# Altium footprint library LED.PcbLib: 30 footprints (part 1 of 2)
Each footprint in its own frame and in the unit in brackets; x right, y up, seen from the top. Pads: shape width x height; smd on the part's side, far side on the other; paste and mask are expansions set on the pad; w line width, h text height; cw(c..) or ccw(c..) is an arc to the next point about the centre after c.
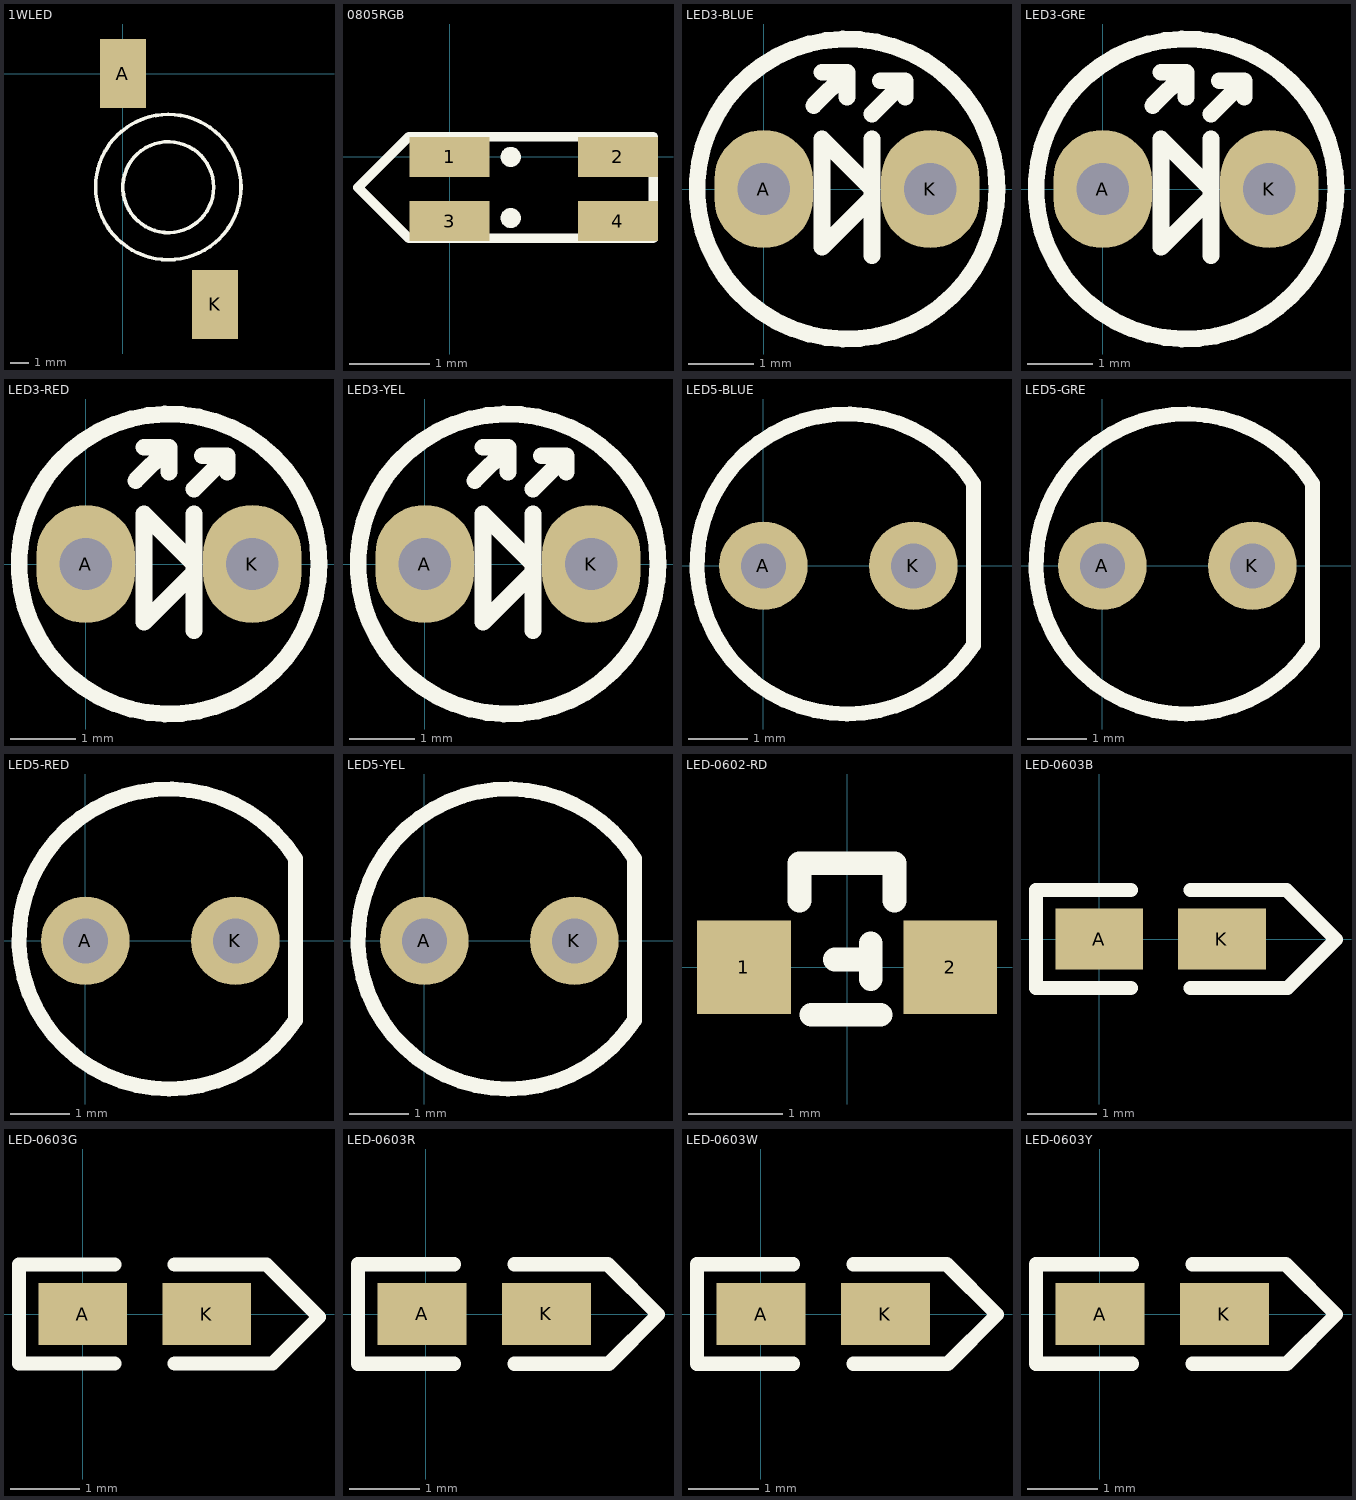
[diagram p0: the footprints below, top view; thin cyan lines are the x and y axes]

## 1WLED [mil]
pads (2):
  rect 100x150 smd: A(0,0) K(200,-500)
Top Overlay:
  circle w7.87: c98.43,-245.75 r157.48
  circle w7.87: c98.43,-246.06 r98.43
3D body: height 19.68, standoff 10, extent -39.37,-59.06 39.37,59.06
3D body: height 19.68, standoff 10, extent 157.48,-561.02 236.22,-433.07
3D body: height 218.43, standoff 21.57, extent 1.03,-343.65 196.85,-147.64
3D body: height 128.11, standoff 10, extent -57.81,-402.92 255.91,-88.58
3D body: height 35, standoff 10, extent 157.48,-433.07 236.22,-314.96
3D body: height 35, standoff 10, extent -39.37,-206.69 39.37,-59.06

## 0805RGB [mm]
height 10
pads (4):
  rect 1x0.5 smd: 1(0,0) 2(2.1,0) 3(0,-0.8) 4(2.1,-0.8)
Top Overlay:
  circle w0.254: c0.762,-0.762 r0
  circle w0.254: c0.762,0 r0
  lines w0.12: -1.143,-0.381 -0.508,-1.016 0,-1.016 2.032,-1.016 2.54,-1.016 2.54,0.254 2.032,0.254 0,0.254 -0.508,0.254 -1.143,-0.381

## LED3-BLUE [mm]
pads (2):
  oval 1.5x1.8 hole 0.8: A(0,0) K(2.54,0)
Top Overlay:
  circle w0.254: c1.27,0 r2.286
  lines w0.254: 0.762,1.27 1.27,1.778 ; 0.889,1.778 1.27,1.778 ; 1.27,1.397 1.27,1.778 ; 1.651,-1.016 1.651,0.762 ; 1.651,1.143 2.159,1.651 ; 1.778,1.651 2.159,1.651 ; 2.159,1.397 2.159,1.651 ; 0.889,-0.889 1.651,-0.127 1.651,0 0.889,0.762 0.889,-0.889
3D body "LED3_BLUE.STEP": height 5.2, standoff -2, extent -0.73,-1.998 2.79,1.998

## LED3-GRE [mm]
pads (2):
  oval 1.5x1.8 hole 0.8: A(0,0) K(2.54,0)
Top Overlay:
  circle w0.254: c1.27,0 r2.286
  lines w0.254: 0.762,1.27 1.27,1.778 ; 0.889,1.778 1.27,1.778 ; 1.27,1.397 1.27,1.778 ; 1.651,-1.016 1.651,0.762 ; 1.651,1.143 2.159,1.651 ; 1.778,1.651 2.159,1.651 ; 2.159,1.397 2.159,1.651 ; 0.889,-0.889 0.889,0.762 1.651,0 1.651,-0.127 0.889,-0.889
3D body "LED3_GRE.STEP": height 5.2, standoff -2, extent -0.74,-2.003 2.78,1.993

## LED3-RED [mm]
pads (2):
  oval 1.5x1.8 hole 0.8: A(0,0) K(2.54,0)
Top Overlay:
  circle w0.254: c1.27,0 r2.286
  lines w0.254: 0.762,1.27 1.27,1.778 ; 0.889,1.778 1.27,1.778 ; 1.27,1.397 1.27,1.778 ; 1.651,-1.016 1.651,0.762 ; 1.651,1.143 2.159,1.651 ; 1.778,1.651 2.159,1.651 ; 2.159,1.397 2.159,1.651 ; 0.889,-0.889 1.651,-0.127 1.651,0 0.889,0.762 0.889,-0.889
3D body "LED3_RED.STEP": height 5.2, standoff -2, extent -0.74,-2.003 2.78,1.993

## LED3-YEL [mm]
pads (2):
  oval 1.5x1.8 hole 0.8: A(0,0) K(2.54,0)
Top Overlay:
  circle w0.254: c1.27,0 r2.286
  lines w0.254: 0.762,1.27 1.27,1.778 ; 0.889,1.778 1.27,1.778 ; 1.27,1.397 1.27,1.778 ; 1.651,-1.016 1.651,0.762 ; 1.651,1.143 2.159,1.651 ; 1.778,1.651 2.159,1.651 ; 2.159,1.397 2.159,1.651 ; 0.889,-0.889 0.889,0.762 1.651,0 1.651,-0.127 0.889,-0.889
3D body "LED3_YEL.STEP": height 5.2, standoff -2, extent -0.373,-1.91 3.147,2.086

## LED5-BLUE [mm]
pads (2):
  round 1.5 hole 0.762: A(0,0) K(2.54,0)
Top Overlay:
  lines w0.254: 3.528,-1.378 cw(c1.415,0.031) 3.556,1.397 3.556,-1.35
3D body "LED5_BLUE.STEP": height 8.6, standoff -2, extent -1.58,-2.85 3.77,2.85

## LED5-GRE [mm]
pads (2):
  round 1.5 hole 0.762: A(0,0) K(2.54,0)
Top Overlay:
  lines w0.254: 3.528,-1.378 cw(c1.415,0.031) 3.556,1.397 3.556,-1.35
3D body "LED5_GRE.STEP": height 8.6, standoff -2, extent -1.58,-2.85 3.77,2.85

## LED5-RED [mm]
pads (2):
  round 1.5 hole 0.762: A(0,0) K(2.54,0)
Top Overlay:
  lines w0.254: 3.528,-1.378 cw(c1.415,0.031) 3.556,1.397 3.556,-1.35
3D body "LED5_RED.STEP": height 8.6, standoff -2, extent -1.58,-2.85 3.77,2.85

## LED5-YEL [mm]
pads (2):
  round 1.5 hole 0.762: A(0,0) K(2.54,0)
Top Overlay:
  lines w0.254: 3.528,-1.378 cw(c1.415,0.031) 3.556,1.397 3.556,-1.35
3D body "LED5_YEL.STEP": height 8.6, standoff -2, extent -1.58,-2.85 3.77,2.85

## LED-0602-RD [mm]
pads (2):
  rect 1x1 smd: 1(-1.1,0) 2(1.1,0)
Top Overlay:
  lines w0.254: -0.508,0.712 -0.508,1.108 0.043,1.108 0.508,1.108 0.508,0.712 ; -0.381,-0.508 0.357,-0.508 ; -0.127,0.082 0.254,0.082 ; 0.254,-0.127 0.254,0.254
3D body "LED-SMD_L1.6-W1.2-RD.STEP": height 0.6, standoff 0, extent -0.825,-0.381 0.825,0.764

## LED-0603B [mil]
pads (2):
  rect 50x35 smd: A(0,0.26) K(70,0.26)
Top Overlay:
  lines w8: 18,-27.74 -36,-27.74 -36,-25.74 -36,28.26 -35,28.26 18,28.26 ; 52,-27.74 107.26,-27.74 135,0 106.74,28.26 106,28.26 52,28.26
3D body "18.STEP": height 23.82, standoff -0.04, extent 3.5,-15 66.5,16.58

## LED-0603G [mil]
pads (2):
  rect 50x35 smd: A(0,0.26) K(70,0.26)
Top Overlay:
  lines w8: 18,-27.74 -36,-27.74 -36,-25.74 -36,28.26 -35,28.26 18,28.26 ; 52,-27.74 107.26,-27.74 133.5,-1.5 103.75,28.26 52,28.26
3D body "17.STEP": height 23.82, standoff -0.04, extent 3.5,-15 66.5,16.58

## LED-0603R [mil]
pads (2):
  rect 50x35 smd: A(-2,0.26) K(68,0.26)
Top Overlay:
  lines w8: 16,-27.74 -38,-27.74 -38,-25.74 -38,28.26 -37,28.26 16,28.26 ; 50,-27.74 103,-27.74 130.74,0 102.48,28.26 101.75,28.26 50,28.26
3D body "16.STEP": height 23.82, standoff -0.04, extent 0,-15.79 62.99,15.79

## LED-0603W [mil]
pads (2):
  rect 50x35 smd: A(0,0.26) K(70,0.26)
Top Overlay:
  lines w8: 18,-27.74 -36,-27.74 -36,-25.74 -36,28.26 -35,28.26 18,28.26 ; 52,-27.74 105,-27.74 132.75,0 104.49,28.26 ; 52,28.26 104.49,28.26 ; 103.75,28.26 104.49,28.26
3D body "15.STEP": height 23.82, standoff -0.04, extent 3.5,-15 66.5,16.58

## LED-0603Y [mil]
pads (2):
  rect 50x35 smd: A(0,0) K(70,0)
Top Overlay:
  lines w8: 18,-28 -36,-28 -36,-26 -36,28 -35,28 18,28 ; 52,-28 105,-28 132.75,-0.26 104.49,28 ; 52,28 104.49,28 ; 103.75,28 104.49,28
3D body "14.STEP": height 23.82, standoff -0.04, extent 3.5,-16.83 66.5,15